# Altium schematic symbol library SEMATIK_LIB.SchLib: 632 symbols (part 5 of 21)
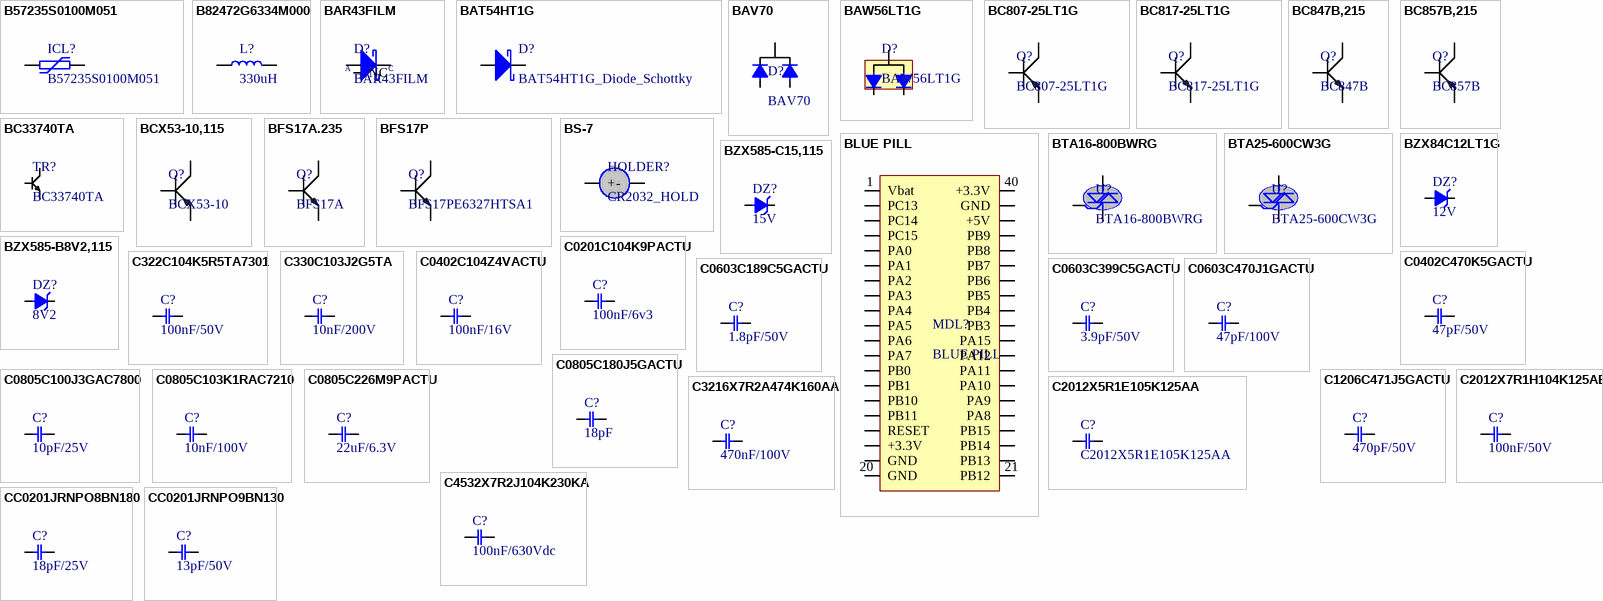
[diagram p20: symbols B57235S0100M051 to CC0201JRNPO9BN130]

## BAR43FILM
designator D?
DIODE SCHOTTKY 30V 100MA SOT23-3; Manufacturer: STMicroelectronics; Polarity: Standard; Capacitance: 7pF; Reverse Recovery Time: 5ns; Max Forward Surge Current (Ifsm): 750mA; Power Dissipation: 250mW; Element Configuration: Single; Forward Voltage: 1V; Max Reverse Current: 500nA; Supplier 1: Digi-Key; Manufacturer Part Number: BAR43FILM; RoHS: Yes; Category: Rectifier Diodes; Stock 1: 4057; Pricing 1: 1=0,33000, 10=0,21600, 100=0,10780, 500=0,08008, 1000=0,05852 (USD); Mount: Surface Mount; Case/Package: SOT-23; Number of Pins: 3; Contact Plating: Tin,Matte; Weight: 0.01lb; Min Operating Temperature: -65°C; Max Operating Temperature: 150°C; Voltage Rating (DC): 30V; Output Current: 100mA; Current Rating: 100mA; Average Rectified Current: 100mA; Max Repetitive Reverse Voltage (Vrrm): 30V; Peak Non-Repetitive Surge Current: 750mA; Termination: SMD/SMT; Max Reverse Voltage (DC): 30V; Package Quantity: 1; Packaging: Tape and Reel; Forward Current: 100mA; Length: 2.9mm; Width: 3.05mm; Height: 0.95mm; Radiation Hardening: No; Lead Free: Lead Free; REACH SVHC: No SVHC; ComponentLink1URL: https://datasheet.ciiva.com/34301/924334-34301779.pdf?src-supplier=Jameco; ComponentLink1Description: https://datasheet.ciiva.com/34301/924334-34301779.pdf?src-supplier=Jameco; ComponentLink2URL: https://datasheet.ciiva.com/915/cd00000764-915504.pdf?src-supplier=Digi-Key; ComponentLink2Description: https://datasheet.ciiva.com/915/cd00000764-915504.pdf?src-supplier=Digi-Key; ComponentLink3URL: https://datasheet.ciiva.com/915/cd00000764-915505.pdf?src-supplier=Digi-Key; ComponentLink3Description: https://datasheet.ciiva.com/915/cd00000764-915505.pdf?src-supplier=Digi-Key; ComponentLink4URL: https://datasheet.ciiva.com/1199/1700360-1199956.pdf?src-supplier=Farnell; ComponentLink4Description: https://datasheet.ciiva.com/1199/1700360-1199956.pdf?src-supplier=Farnell; ComponentLink5URL: https://datasheet.ciiva.com/1199/1700360-1199957.pdf?src-supplier=Farnell; ComponentLink5Description: https://datasheet.ciiva.com/1199/1700360-1199957.pdf?src-supplier=Farnell; ComponentLink6URL: https://datasheet.ciiva.com/15144/getdatasheetpartid-65776-15144378.pdf?src-supplier=Verical; ComponentLink6Description: https://datasheet.ciiva.com/15144/getdatasheetpartid-65776-15144378.pdf?src-supplier=Verical; ComponentLink7URL: https://datasheet.ciiva.com/16360/cd00000764-16360042.pdf?src-supplier=Future+Electronics; ComponentLink7Description: https://datasheet.ciiva.com/16360/cd00000764-16360042.pdf?src-supplier=Future+Electronics; ComponentLink8URL: https://datasheet.ciiva.com/1177/1837092-1177595.pdf?src-supplier=Element14; ComponentLink8Description: https://datasheet.ciiva.com/1177/1837092-1177595.pdf?src-supplier=Element14; ComponentLink9URL: https://datasheet.ciiva.com/14560/70013844-14560827.pdf?src-supplier=Allied+Electronics; ComponentLink9Description: https://datasheet.ciiva.com/14560/70013844-14560827.pdf?src-supplier=Allied+Electronics; ComponentLink10URL: https://datasheet.ciiva.com/1177/1837092-1177596.pdf?src-supplier=Element14; ComponentLink10Description: https://datasheet.ciiva.com/1177/1837092-1177596.pdf?src-supplier=Element14; ComponentLink11URL: https://datasheet.ciiva.com/1177/1700360-1177597.pdf?src-supplier=Element14; ComponentLink11Description: https://datasheet.ciiva.com/1177/1700360-1177597.pdf?src-supplier=Element14; ComponentLink12URL: https://datasheet.ciiva.com/915/cd00000764-915503.pdf?src-supplier=Digi-Key; ComponentLink12Description: https://datasheet.ciiva.com/915/cd00000764-915503.pdf?src-supplier=Digi-Key; Supplier Part Number 1: 497-2521-1-ND
footprint SOT-23
pins: 1 Cathode (power), 2 Anode (power), 3 NC
text: A; C

## BAT54HT1G
designator D?, comment BAT54HT1G_Diode_Schottky
DIODE SCHOTTKY 30V 200MA SOD323; Manufacturer: Fairchild/ON Semiconductor; Voltage - Forward (Vf) (Max) @ If: 800mV @ 100mA; Speed: Small Signal =< 200mA (Io), Any Speed; Current - Reverse Leakage @ Vr: 2µA @ 25V; Capacitance @ Vr, F: 10pF @ 1V, 1MHz; Supplier 1: Digi-Key; Manufacturer Part Number: BAT54HT1G; RoHS: RoHS Compliant; Category: Discrete Semiconductor Products; Stock 1: 11749; Pricing 1: 1=0.3, 10=0.249, 100=0.1319, 500=0.08678, 1000=0.05901 (USD); Packaging: Cut Tape (CT); Part Status: Obsolete; Diode Type: Schottky; Current - Average Rectified (Io): 200mA; Mounting Type: Surface Mount; Package / Case: SC-76, SOD-323; Supplier Device Package: SOD-323-2; Operating Temperature - Junction: -55°C ~ 150°C; ComponentLink1URL: http://media.digikey.com/pdf/Data%20Sheets/Fairchild%20PDFs/BAT54HT1G_Rev_1.2.pdf; ComponentLink1Description: http://media.digikey.com/pdf/Data%20Sheets/Fairchild%20PDFs/BAT54HT1G_Rev_1.2.pdf; Supplier Part Number 1: BAT54HT1GCT-ND
footprint SOD323_Diyot
pins: 1 Katot, 2 Anot

## BAV70
designator D?
DIODE DUAL SWITCHING COM CATHOD SOT-23; Manufacturer: Rectron; Current Rating: 200mA; Voltage Rating (DC): 70V; Capacitance: 1.5pF; Forward Voltage: 1V; Supplier 1: Arrow Electronics; Manufacturer Part Number: BAV70; RoHS: Yes; Category: Rectifier Diodes; Pricing 1: 3000=0,03000, 30000=0,02990, 300000=0,02920, 1500000=0,02880 (USD); Case/Package: SOT-23; Number of Pins: 3; Packaging: Tape and Reel; REACH SVHC: No SVHC; Lead Free: Lead Free; ComponentLink1URL: https://datasheet.ciiva.com/12329/bav70-26153-12329824.pdf?src-supplier=Mouser; ComponentLink1Description: https://datasheet.ciiva.com/12329/bav70-26153-12329824.pdf?src-supplier=Mouser; Supplier Part Number 1: BAV70
footprint SOT-23
pins: 1 Katot, 2 Anot, 3 Anot

## BAW56LT1G
designator D?
DIODE ARRAY GP 75V 215MA SOT23; Manufacturer: ON Semiconductor; Reverse Recovery Time: 6ns; Forward Current: 200mA; Max Repetitive Reverse Voltage (Vrrm): 70V; Forward Voltage: 1.25V; Element Configuration: Common Anode; Max Surge Current: 4A; Max Reverse Current: 2.5uA; Max Reverse Leakage Current: 2.4uA; Max Forward Surge Current (Ifsm): 500mA; Power Dissipation: 300mW; Max Power Dissipation: 225mW; Supplier 1: Digi-Key; Manufacturer Part Number: BAW56LT1G; Stock 1: 170799; Pricing 1: 1 = 0,10000, 10 = 0,08500, 100 = 0,03260, 500 = 0,02380, 1000 = 0,01598 (USD); RoHS: Yes; Case/Package: SOT-23-3; Number of Pins: 3; Contact Plating: Tin,Matte; Min Operating Temperature: -55°C; Max Operating Temperature: 150°C; Packaging: Tape and Reel; Package Quantity: 3000; Max Reverse Voltage (DC): 70V; Recovery Time: 6ns; Average Rectified Current: 200mA; Peak Non-Repetitive Surge Current: 4A; Current Rating: 200mA; Voltage Rating (DC): 70V; Termination: SMD/SMT; Length: 2.9mm; Width: 1.3mm; Height: 0.94mm; Radiation Hardening: No; Lead Free: Lead Free; REACH SVHC: No SVHC; Halogen Free: Halogen Free; ComponentLink1URL: https://datasheet.ciiva.com/905/baw56lt1-d-905777.pdf?src-supplier=Digi-Key; ComponentLink1Description: https://datasheet.ciiva.com/905/baw56lt1-d-905777.pdf?src-supplier=Digi-Key; ComponentLink2URL: https://datasheet.ciiva.com/22663/1708242-22663674.pdf?src-supplier=Element14; ComponentLink2Description: https://datasheet.ciiva.com/22663/1708242-22663674.pdf?src-supplier=Element14; ComponentLink3URL: https://datasheet.ciiva.com/905/baw56lt1-d-905778.pdf?src-supplier=Digi-Key; ComponentLink3Description: https://datasheet.ciiva.com/905/baw56lt1-d-905778.pdf?src-supplier=Digi-Key; ComponentLink4URL: https://datasheet.ciiva.com/905/baw56lt1-d-905779.pdf?src-supplier=Digi-Key; ComponentLink4Description: https://datasheet.ciiva.com/905/baw56lt1-d-905779.pdf?src-supplier=Digi-Key; ComponentLink5URL: https://datasheet.ciiva.com/8300/baw56lt1-d-8300021.pdf?src-supplier=Avnet; ComponentLink5Description: https://datasheet.ciiva.com/8300/baw56lt1-d-8300021.pdf?src-supplier=Avnet; ComponentLink6URL: https://datasheet.ciiva.com/1180/1708242-1180840.pdf?src-supplier=Element14; ComponentLink6Description: https://datasheet.ciiva.com/1180/1708242-1180840.pdf?src-supplier=Element14; ComponentLink7URL: https://datasheet.ciiva.com/8053/baw56lt1-d-8053688.pdf?src-supplier=Element14; ComponentLink7Description: https://datasheet.ciiva.com/8053/baw56lt1-d-8053688.pdf?src-supplier=Element14; ComponentLink8URL: https://datasheet.ciiva.com/1180/1708242-1180841.pdf?src-supplier=Element14; ComponentLink8Description: https://datasheet.ciiva.com/1180/1708242-1180841.pdf?src-supplier=Element14; ComponentLink9URL: https://datasheet.ciiva.com/1180/baw56lt1-d-1180842.pdf?src-supplier=Element14; ComponentLink9Description: https://datasheet.ciiva.com/1180/baw56lt1-d-1180842.pdf?src-supplier=Element14; ComponentLink10URL: https://datasheet.ciiva.com/8299/baw56lt1-d-8299663.pdf?src-supplier=Avnet; ComponentLink10Description: https://datasheet.ciiva.com/8299/baw56lt1-d-8299663.pdf?src-supplier=Avnet; ComponentLink11URL: https://datasheet.ciiva.com/16201/baw56lt1-d-16201039.pdf?src-supplier=Future+Electronics; ComponentLink11Description: https://datasheet.ciiva.com/16201/baw56lt1-d-16201039.pdf?src-supplier=Future+Electronics; Supplier Part Number 1: BAW56LT1GOSCT-ND
footprint SOT-23
pins: 1 A, 2 K1, 3 K2

## BC807-25LT1G
designator Q?
TRANS PNP 45V 0.5A SOT23; Manufacturer: ON Semiconductor; Vce Saturation (Max) @ Ib, Ic: 700mV @ 50mA, 500mA; Current - Collector Cutoff (Max): 100nA (ICBO); DC Current Gain (hFE) (Min) @ Ic, Vce: 160 @ 100mA, 1V; Frequency - Transition: 100MHz; Supplier 1: Digi-Key; Manufacturer Part Number: BC807-25LT1G; RoHS: RoHS Compliant; Category: Discrete Semiconductor Products; Stock 1: 42551; Pricing 1: 1=0.16, 10=0.15, 100=0.0815, 500=0.05018, 1000=0.03421 (USD); Packaging: Cut Tape (CT); Part Status: Active; Transistor Type: PNP; Operating Temperature: -55°C ~ 150°C (TJ); Mounting Type: Surface Mount; Package / Case: TO-236-3, SC-59, SOT-23-3; Supplier Device Package: SOT-23-3 (TO-236); Base Part Number: BC807; ComponentLink1URL: http://www.onsemi.com/pub/Collateral/BC807-16LT1-D.PDF; ComponentLink1Description: http://www.onsemi.com/pub/Collateral/BC807-16LT1-D.PDF; Supplier Part Number 1: BC807-25LT1GOSCT-ND
footprint SOT-23
pins: 1 Collector, 2 Base, 3 Emiter

## BC817-25LT1G
designator Q?
TRANS NPN 45V 0.5A SOT23; Manufacturer: ON Semiconductor; Vce Saturation (Max) @ Ib, Ic: 700mV @ 50mA, 500mA; Current - Collector Cutoff (Max): 100nA (ICBO); DC Current Gain (hFE) (Min) @ Ic, Vce: 160 @ 100mA, 1V; Frequency - Transition: 100MHz; Supplier 1: Digi-Key; Manufacturer Part Number: BC817-25LT1G; RoHS: RoHS Compliant; Category: Discrete Semiconductor Products; Stock 1: 49597; Pricing 1: 1=0.2, 10=0.185, 100=0.101, 500=0.06214, 1000=0.04237 (USD); Packaging: Cut Tape (CT); Part Status: Active; Transistor Type: NPN; Operating Temperature: -65°C ~ 150°C (TJ); Mounting Type: Surface Mount; Package / Case: TO-236-3, SC-59, SOT-23-3; Supplier Device Package: SOT-23-3 (TO-236); Base Part Number: BC817; ComponentLink1URL: http://www.onsemi.com/pub/Collateral/BC817-16LT1-D.PDF; ComponentLink1Description: http://www.onsemi.com/pub/Collateral/BC817-16LT1-D.PDF; Supplier Part Number 1: BC817-25LT1GOSCT-ND
footprint SOT-23
pins: 1 Collector, 2 Base, 3 Emiter

## BC847B,215
designator Q?, comment BC847B
TRANS NPN 45V 0.1A SOT23; Manufacturer: Nexperia; Manufacturer Part Number: BC847B,215; Supplier 1: Digi-Key; Stock 1: 27778; Pricing 1: 1 = 0,13000, 10 = 0,11600, 25 = 0,11000, 100 = 0,04840, 500 = 0,03802, 1000 = 0,02640 (USD); RoHS: No; ComponentLink1URL: http://www.farnell.com/datasheets/1856333.pdf?src-supplier=Farnell; ComponentLink1Description: http://www.farnell.com/datasheets/1856333.pdf?src-supplier=Farnell; ComponentLink2URL: http://www.farnell.com/datasheets/1856333.pdf?src-supplier=Newark; ComponentLink2Description: http://www.farnell.com/datasheets/1856333.pdf?src-supplier=Newark; ComponentLink3URL: https://assets.nexperia.com/documents/data-sheet/BC847_SER.pdf?src-supplier=Digi-Key; ComponentLink3Description: https://assets.nexperia.com/documents/data-sheet/BC847_SER.pdf?src-supplier=Digi-Key; Supplier Part Number 1: 1727-2921-1-ND
footprint SOT-23
pins: 1 Collector, 2 Base, 3 Emiter

## BC857B,215
designator Q?, comment BC857B
TRANS PNP 45V 0.1A SOT23; Manufacturer: Nexperia; Manufacturer Part Number: BC857B,215; Supplier 1: Digi-Key; RoHS: No; Category: BJTs; Stock 1: 62156; Pricing 1: 1=0,14000, 10=0,12300, 25=0,11760, 100=0,05170, 500=0,04060, 1000=0,02820 (USD); ComponentLink1URL: http://www.farnell.com/datasheets/490737.pdf?src-supplier=Farnell; ComponentLink1Description: http://www.farnell.com/datasheets/490737.pdf?src-supplier=Farnell; ComponentLink2URL: http://www.farnell.com/datasheets/490737.pdf?src-supplier=Newark; ComponentLink2Description: http://www.farnell.com/datasheets/490737.pdf?src-supplier=Newark; ComponentLink3URL: https://assets.nexperia.com/documents/data-sheet/BC856_BC857_BC858.pdf?src-supplier=Digi-Key; ComponentLink3Description: https://assets.nexperia.com/documents/data-sheet/BC856_BC857_BC858.pdf?src-supplier=Digi-Key; Supplier Part Number 1: 1727-2926-1-ND
footprint SOT-23
pins: 1 Collector, 2 Base, 3 Emiter

## BC33740TA
designator TR?
TRANS NPN 45V 0.8A TO-92; Manufacturer 1: ON Semiconductor; Max Collector Current: 800mA; Collector Emitter Voltage (VCEO): 700mV; Max Power Dissipation: 625mW; Transition Frequency: 100MHz; Supplier 1: Digi-Key; Manufacturer Part Number 1: BC33740TA; Description 1: TRANS NPN 45V 0.8A TO-92; Stock 1: 3675; Pricing 1: 1=0.33, 10=0.266, 100=0.1412, 500=0.09288, 1000=0.06316 (USD); Mount: Through Hole; Case/Package: TO-226-3; Packaging: Tape and Reel; Collector Emitter Breakdown Voltage: 45V; Supplier Part Number 1: BC33740TACT-ND
footprint TO92-BentLead
pins: 1 Collector, 2 Base, 3 Emiter

## BCX53-10,115
designator Q?, comment BCX53-10
TRANS PNP 80V 1A SOT-89; Manufacturer: Nexperia; Manufacturer Part Number: BCX53-10,115; Supplier 1: Digi-Key; Stock 1: 2734; Pricing 1: 1 = 0,39000, 10 = 0,29200, 25 = 0,25560, 100 = 0,13870, 500 = 0,11316 (USD); RoHS: No; Supplier Part Number 1: 1727-4911-1-ND
footprint SOT-89
pins: 1 Base, 2 Collector, 3 Emiter

## BFS17A.235
designator Q?, comment BFS17A
RF TRANS NPN 15V 25MA 3GHZ SOT23; Manufacturer: NXP Semiconductors; Manufacturer Part Number: BFS17A.235; Emitter Base Voltage (VEBO): 2.5V; Transition Frequency: 2.8GHz; Collector Base Voltage (VCBO): 25V; Number of Elements: 1; Power Dissipation: 300mW; hFE Min: 25; Element Configuration: Single; Supplier 1: Digi-Key; Stock 1: 0; RoHS: Yes; Mount: Surface Mount; Case/Package: TO-236-3; Number of Pins: 3; Contact Plating: Tin,Matte; Min Operating Temperature: -65°C; Max Operating Temperature: 150°C; Polarity: NPN; Collector Emitter Voltage (VCEO): 15V; Continuous Collector Current: 25mA; Collector Emitter Breakdown Voltage: 15V; Max Collector Current: 25mA; Frequency: 2.8GHz; Packaging: Tape and Reel; Package Quantity: 10000; Max Power Dissipation: 300mW; ComponentLink1URL: https://datasheet.ciiva.com/964/bfs17a-964925.pdf?src-supplier=Digi-Key; ComponentLink1Description: https://datasheet.ciiva.com/964/bfs17a-964925.pdf?src-supplier=Digi-Key; ComponentLink2URL: https://datasheet.ciiva.com/11205/bfs17a-11205309.pdf?src-supplier=Avnet; ComponentLink2Description: https://datasheet.ciiva.com/11205/bfs17a-11205309.pdf?src-supplier=Avnet; ComponentLink3URL: https://datasheet.ciiva.com/17304/bfs17a-17304973.pdf?src-supplier=Avnet+Europe; ComponentLink3Description: https://datasheet.ciiva.com/17304/bfs17a-17304973.pdf?src-supplier=Avnet+Europe; Supplier Part Number 1: BFS17A,235-ND
footprint SOT-23
pins: 1 Collector, 2 Base, 3 Emiter

## BFS17P
designator Q?, comment BFS17PE6327HTSA1
RF TRANS NPN 15V 1.4GHZ SOT23-3; Manufacturer: Infineon; Manufacturer Part Number: BFS17P; Max Power Dissipation: 280mW; Transition Frequency: 2.5GHz; Max Collector Current: 50mA; Collector Base Voltage (VCBO): 25V; Emitter Base Voltage (VEBO): 2.5V; hFE Min: 20; Collector Emitter Saturation Voltage: 400mV; Max Frequency: 2.5MHz; Test Frequency: 800MHz; Supplier 1: Digi-Key; Stock 1: 1004; Pricing 1: 1 = 0,37000, 10 = 0,30100, 25 = 0,25200, 100 = 0,15960, 250 = 0,12320, 500 = 0,10500, 1000 = 0,07140 (USD); RoHS: Yes; Case/Package: SOT; Number of Pins: 3; Min Operating Temperature: -65°C; Max Operating Temperature: 150°C; Collector Emitter Breakdown Voltage: 15V; Collector Emitter Voltage (VCEO): 15V; Polarity: NPN; Packaging: Cut Tape; Termination: SMD/SMT; Length: 2.9mm; Width: 1.3mm; Height: 1mm; REACH SVHC: No SVHC; ComponentLink1URL: https://datasheet.ciiva.com/1196/62446-1196382.pdf?src-supplier=Element14; ComponentLink1Description: https://datasheet.ciiva.com/1196/62446-1196382.pdf?src-supplier=Element14; Supplier Part Number 1: BFS17PE6327HTSA1CT-ND
footprint SOT-23
pins: 1 Collector, 2 Base, 3 Emiter

## BLUE PILL
designator MDL?
STM32F103C8T6 Development Board BLUE PILL
footprint BLUE_PILL
pins: 1 Vbat, 2 PC13, 3 PC14, 4 PC15, 5 PA0, 6 PA1, 7 PA2, 8 PA3, 9 PA4, 10 PA5, 11 PA6, 12 PA7, 13 PB0, 14 PB1, 15 PB10, 16 PB11, 17 RESET, 18 +3.3V, 19 GND, 20 GND, 21 PB12, 22 PB13, 23 PB14, 24 PB15, 25 PA8, 26 PA9, 27 PA10, 28 PA11, 29 PA12, 30 PA15, 31 PB3, 32 PB4, 33 PB5, 34 PB6, 35 PB7, 36 PB8, 37 PB9, 38 +5V, 39 GND, 40 +3.3V

## BS-7
designator HOLDER?, comment CR2032_HOLD
BATTERY HOLDER COIN 20MM PC PIN; Manufacturer: Memory Protection Devices; Manufacturer Part Number: BS-7; Number of Cells: 1; Supplier 1: Digi-Key; Stock 1: 32964; Pricing 1: 1 = 0,78000, 10 = 0,66000, 50 = 0,57880, 100 = 0,54570, 250 = 0,50236, 500 = 0,47176, 1000 = 0,44115, 2500 = 0,40290, 5000 = 0,37230 (USD); RoHS: Yes; Mount: Through Hole,PCB; Min Operating Temperature: -55°C; Max Operating Temperature: 105°C; Package Quantity: 100; Termination: PC Pin; Diameter: 20mm; Lead Free: Lead Free; ComponentLink1URL: https://datasheet.ciiva.com/3/bs-7-datasheet-3824.pdf?src-supplier=Digi-Key; ComponentLink1Description: https://datasheet.ciiva.com/3/bs-7-datasheet-3824.pdf?src-supplier=Digi-Key; Supplier Part Number 1: BS-7-ND
footprint BATTERYHOLDER_2032
pins: 1 +, 2 -

## BTA16-800BWRG
designator U?
TRIAC ALTERNISTOR 800V TO220AB; Manufacturer 1: STMicroelectronics; RMS Current (Irms): 16A; Element Configuration: Single; Hold Current: 50mA; Isolation Voltage: 2.5kV; Supplier 1: Digi-Key; Manufacturer Part Number 1: BTA16-800BWRG; Description 1: TRIAC ALTERNISTOR 800V TO220AB; Stock 1: 7247; Pricing 1: 1=1.94, 50=1.64, 100=1.3973, 500=1.148, 1000=0.9512, 2500=0.8856, 5000=0.8528 (USD); Mount: Through Hole; Case/Package: TO-220AB; Number of Pins: 3; Weight: 0.211644oz; Contact Plating: Tin,Matte; Min Operating Temperature: -40°C; Max Operating Temperature: 125°C; Packaging: Rail/Tube; Package Quantity: 50; Max Repetitive Reverse Voltage (Vrrm): 800V; Current Rating: 16A; Voltage Rating (DC): 800V; Length: 10.4mm; Height: 9.3mm; Width: 4.6mm; Radiation Hardening: No; REACH SVHC: No SVHC; Lead Free: Lead Free; ComponentLink1URL: http://www.farnell.com/datasheets/1699992.pdf?src-supplier=Element14; ComponentLink1Description: http://www.farnell.com/datasheets/1699992.pdf?src-supplier=Element14; ComponentLink2URL: http://www.st.com/web/en/resource/technical/document/datasheet/CD00002265.pdf?src-supplier=Avnet; ComponentLink2Description: http://www.st.com/web/en/resource/technical/document/datasheet/CD00002265.pdf?src-supplier=Avnet; ComponentLink3URL: http://www.mouser.com/ds/2/389/bta16-954517.pdf?src-supplier=Mouser; ComponentLink3Description: http://www.mouser.com/ds/2/389/bta16-954517.pdf?src-supplier=Mouser; ComponentLink4URL: http://www.st.com/web/en/resource/technical/document/datasheet/CD00002265.pdf?src-supplier=Future+Electronics; ComponentLink4Description: http://www.st.com/web/en/resource/technical/document/datasheet/CD00002265.pdf?src-supplier=Future+Electronics; Supplier Part Number 1: 497-6668-5-ND
footprint TO-220AB
pins: 1 A1, 2 A2, 3 GATE

## BTA25-600CW3G
designator U?
TRIAC 600V 25A TO220AB; Manufacturer 1: Littelfuse; Hold Current: 50mA; Element Configuration: Single; Supplier 1: Digi-Key; Manufacturer Part Number 1: BTA25-600CW3G; Description 1: TRIAC 600V 25A TO220AB; Stock 1: 1337; Pricing 1: 1=3.42, 10=3.056, 25=2.75, 100=2.5057, 250=2.26124, 500=2.02902, 1000=1.71122, 2500=1.62566, 5000=1.56454 (USD); Mount: Through Hole; Case/Package: TO-220-3; Min Operating Temperature: -40°C; Max Operating Temperature: 125°C; Packaging: Rail/Tube; RMS Current (Irms): 25A; Supplier Part Number 1: BTA25-600CW3GOS-ND
footprint TO-220AB
pins: 1 A1, 2 A2, 3 GATE

## BZX84C12LT1G
designator DZ?, comment 12V
DIODE ZENER 12V 250W SOT23-3; Manufacturer: ON Semiconductor; Manufacturer Part Number: BZX84C12LT1G; Max Power Dissipation: 225mW; Forward Voltage: 900mV; Tolerance: 5%; Max Reverse Leakage Current: 100nA; Impedance: 25R; Power Dissipation: 300mW; Test Current: 5mA; Element Configuration: Single; Zener Current: 10mA; Breakdown Voltage: 12.7V; ESD Protection: Yes; Supplier 1: Digi-Key; Stock 1: 39639; Pricing 1: 1 = 0,13000, 10 = 0,11800, 100 = 0,04950, 500 = 0,03888, 1000 = 0,02700 (USD); RoHS: Yes; Case/Package: SOT-23-3; Number of Pins: 3; Material: Plastic; Contact Plating: Tin,Matte; Min Operating Temperature: -65°C; Max Operating Temperature: 150°C; Package Quantity: 3000; Packaging: Tape and Reel; Zener Voltage: 12V; Voltage Tolerance: 5%; Working Voltage: 12V; Max Reverse Current: 100nA; Voltage Rating (DC): 12V; Power Rating: 225mW; Length: 2.9mm; Width: 1.3mm; Height: 0.94mm; Radiation Hardening: No; Lead Free: Lead Free; Halogen Free: Halogen Free; REACH SVHC: No SVHC; ComponentLink1URL: https://datasheet.ciiva.com/15141/getdatasheetpartid-38645-15141985.pdf?src-supplier=Verical; ComponentLink1Description: https://datasheet.ciiva.com/15141/getdatasheetpartid-38645-15141985.pdf?src-supplier=Verical; ComponentLink2URL: https://datasheet.ciiva.com/39121/2010827-39121645.pdf?src-supplier=Jameco; ComponentLink2Description: https://datasheet.ciiva.com/39121/2010827-39121645.pdf?src-supplier=Jameco; ComponentLink3URL: https://datasheet.ciiva.com/25929/bzx84c2v4lt1-d-25929575.pdf?src-supplier=Avnet+Europe; ComponentLink3Description: https://datasheet.ciiva.com/25929/bzx84c2v4lt1-d-25929575.pdf?src-supplier=Avnet+Europe; ComponentLink4URL: https://datasheet.ciiva.com/8345/bzx84c2v4lt1-d-8345784.pdf?src-supplier=Avnet; ComponentLink4Description: https://datasheet.ciiva.com/8345/bzx84c2v4lt1-d-8345784.pdf?src-supplier=Avnet; ComponentLink5URL: https://datasheet.ciiva.com/8026/bzx84c2v4lt1-d-8026969.pdf?src-supplier=Element14; ComponentLink5Description: https://datasheet.ciiva.com/8026/bzx84c2v4lt1-d-8026969.pdf?src-supplier=Element14; ComponentLink6URL: https://datasheet.ciiva.com/8026/bzx84c2v4lt1-d-8026970.pdf?src-supplier=Element14; ComponentLink6Description: https://datasheet.ciiva.com/8026/bzx84c2v4lt1-d-8026970.pdf?src-supplier=Element14; ComponentLink7URL: https://datasheet.ciiva.com/8345/bzx84c2v4lt1-d-8345788.pdf?src-supplier=Avnet; ComponentLink7Description: https://datasheet.ciiva.com/8345/bzx84c2v4lt1-d-8345788.pdf?src-supplier=Avnet; ComponentLink8URL: https://datasheet.ciiva.com/894/bzx84c2v4lt1-d-894701.pdf?src-supplier=Digi-Key; ComponentLink8Description: https://datasheet.ciiva.com/894/bzx84c2v4lt1-d-894701.pdf?src-supplier=Digi-Key; ComponentLink9URL: https://datasheet.ciiva.com/894/bzx84c2v4lt1-d-894702.pdf?src-supplier=Digi-Key; ComponentLink9Description: https://datasheet.ciiva.com/894/bzx84c2v4lt1-d-894702.pdf?src-supplier=Digi-Key; ComponentLink10URL: https://datasheet.ciiva.com/18434/70100187-18434894.pdf?src-supplier=Allied+Electronics; ComponentLink10Description: https://datasheet.ciiva.com/18434/70100187-18434894.pdf?src-supplier=Allied+Electronics; ComponentLink11URL: https://datasheet.ciiva.com/894/bzx84c2v4lt1-d-894703.pdf?src-supplier=Digi-Key; ComponentLink11Description: https://datasheet.ciiva.com/894/bzx84c2v4lt1-d-894703.pdf?src-supplier=Digi-Key; Supplier Part Number 1: BZX84C12LT1GOSCT-ND
footprint SOT-23
pins: 1 Cathode, 2 Anot

## BZX585-B8V2,115
designator DZ?, comment 8V2
DIODE ZENER SINGLE 8.2V 2% 300mW Automotive 2-Pin SOD-523 T/R; Manufacturer: NXP Semiconductors; Manufacturer Part Number: BZX585-B8V2,115; Forward Voltage: 1.1V; ESD Protection: No; Max Reverse Leakage Current: 700nA; Impedance: 10R; Test Current: 5mA; Supplier 1: Digi-Key; Stock 1: 3625; Pricing 1: 1 = 0,29000, 10 = 0,23700, 100 = 0,09680, 500 = 0,08074, 1000 = 0,05610 (USD); RoHS: Yes; Mount: Surface Mount; Case/Package: SC; Number of Pins: 2; Contact Plating: Tin; Min Operating Temperature: -65°C; Max Operating Temperature: 150°C; Element Configuration: Single; Package Quantity: 3000; Packaging: Tape and Reel; Max Power Dissipation: 300mW; Tolerance: 2%; Power Dissipation: 300mW; Zener Voltage: 8.2V; Voltage Tolerance: 2%; Max Reverse Current: 700nA; Working Voltage: 8.2V; Radiation Hardening: No; Lead Free: Lead Free; ComponentLink1URL: https://datasheet.ciiva.com/896/bzx585-series-896532.pdf?src-supplier=Digi-Key; ComponentLink1Description: https://datasheet.ciiva.com/896/bzx585-series-896532.pdf?src-supplier=Digi-Key; ComponentLink2URL: https://datasheet.ciiva.com/8346/bzx585-series-8346871.pdf?src-supplier=Avnet; ComponentLink2Description: https://datasheet.ciiva.com/8346/bzx585-series-8346871.pdf?src-supplier=Avnet; ComponentLink3URL: https://datasheet.ciiva.com/10644/bzx585-series-10644999.pdf?src-supplier=Avnet; ComponentLink3Description: https://datasheet.ciiva.com/10644/bzx585-series-10644999.pdf?src-supplier=Avnet; Supplier Part Number 1: 1727-2649-1-ND
footprint SOD523F
pins: 1 Cathode, 2 Anode

## BZX585-C15,115
designator DZ?, comment 15V
DIODE ZENER SINGLE 15V 5% 300mW 2-Pin SOD-523 T/R; Manufacturer: Nexperia; Manufacturer Part Number: BZX585-C15,115; Supplier 1: Digi-Key; Stock 1: 8436; Pricing 1: 1 = 0,26000, 10 = 0,21000, 100 = 0,08580, 500 = 0,07156, 1000 = 0,04973 (USD); RoHS: No; ComponentLink1URL: http://www.farnell.com/datasheets/2174102.pdf?src-supplier=Farnell; ComponentLink1Description: http://www.farnell.com/datasheets/2174102.pdf?src-supplier=Farnell; Supplier Part Number 1: 1727-6235-1-ND
footprint SOD523F
pins: 1 Cathode, 2 Anode

## C0201C104K9PACTU
designator C?, comment 100nF/6v3
CAP CER nF 100 6.3V X5R 0201; Manufacturer: KEMET; Manufacturer Part Number: C0201C104K9PACTU; Dielectric Material: Ceramic; Capacitance: 100nF; Dissipation Factor: 5%; Tolerance: 10%; Supplier 1: Digi-Key; Stock 1: 693438; Pricing 1: 1 = 0,11000, 10 = 0,07800, 100 = 0,03470, 500 = 0,02480, 1000 = 0,01948, 2500 = 0,01771, 5000 = 0,01629 (USD); RoHS: Yes; Mount: Surface Mount,PCB; Case/Package: 0201; Case Code (Metric): 0603; Case Code (Imperial): 0201; Min Operating Temperature: -55°C; Max Operating Temperature: 85°C; Dielectric: X5R; Termination: SMD/SMT; Voltage: 6.3V; Voltage Rating: 6.3V; Packaging: Tape and Reel; Package Quantity: 1; Voltage Rating (DC): 6.3V; Length: 0.6mm; Height: 0.3mm; Thickness: 0.013inch; Depth: 0.3mm; Width: 0.012inch; Radiation Hardening: No; REACH SVHC: No SVHC; ComponentLink1URL: https://datasheet.ciiva.com/7657/1698774-7657445.pdf?src-supplier=Element14; ComponentLink1Description: https://datasheet.ciiva.com/7657/1698774-7657445.pdf?src-supplier=Element14; ComponentLink2URL: https://datasheet.ciiva.com/28645/1789732-28645354.pdf?src-supplier=Element14; ComponentLink2Description: https://datasheet.ciiva.com/28645/1789732-28645354.pdf?src-supplier=Element14; Supplier Part Number 1: 399-7743-6-ND
footprint cap_0201
pins: 1, 2

## C322C104K5R5TA7301
designator C?, comment 100nF/50V
CAP CER nF 100 50V X7R RADIAL; Manufacturer 1: KEMET; Manufacturer Part Number 1: C322C104K5R5TA7301; Description 1: Multilayer Ceramic Capacitors MLCC - Leaded 50volts 0.1uF 10% X7R; Capacitance: 100nF; Tolerance: 10%; Dissipation Factor: 2.5%; Lead/Base Style: Formed Leads; Lead Diameter: 0.51mm; Pitch: 5.08mm; Supplier 1: Digi-Key; Stock 1: 166396; Pricing 1: 1=0.25, 10=0.173, 100=0.0978, 500=0.069, 1000=0.06038 (USD); Mount: Through Hole; Case/Package: Radial; Min Operating Temperature: -55°C; Max Operating Temperature: 125°C; Packaging: Tape and Reel; Voltage Rating: 50V; Voltage Rating (DC): 50V; Package Quantity: 2500; Dielectric: X7R; Termination: Radial; Length: 5.08mm; Height: 3.18mm; Lead Pitch: 5.08mm; Width: 0.125inch; Height - Seated (Max): 0.26inch; Depth: 3.18mm; Radiation Hardening: No; REACH SVHC: No SVHC; Lead Free: Lead Free; ComponentLink1URL: http://www.kemet.com/Lists/ProductCatalog/Attachments/598/KEM_C1050_GOLDMAX_X7R.pdf?src-supplier=Digi-Key; ComponentLink1Description: http://www.kemet.com/Lists/ProductCatalog/Attachments/598/KEM_C1050_GOLDMAX_X7R.pdf?src-supplier=Digi-Key; ComponentLink2URL: http://capacitoredge.kemet.com/capedge2/DataSheet?pn=C322C104K5R5TA7301&src-supplier=Avnet+Europe; ComponentLink2Description: http://capacitoredge.kemet.com/capedge2/DataSheet?pn=C322C104K5R5TA7301&src-supplier=Avnet+Europe; ComponentLink3URL: https://www.distrelec.biz/Web/Downloads/_t/ds/c052_62_mlcc-series_eng_tds.pdf?mime=application%2Fpdf&src-supplier=Distrelec; ComponentLink3Description: https://www.distrelec.biz/Web/Downloads/_t/ds/c052_62_mlcc-series_eng_tds.pdf?mime=application%2Fpdf&src-supplier=Distrelec; Supplier Part Number 1: 399-9877-1-ND
footprint cap20
footprint CAP20+CAP0805
pins: 1, 2

## C330C103J2G5TA
designator C?, comment 10nF/200V
CAP CER nF 10 200V NP0 RADIAL; Manufacturer 1: KEMET; Manufacturer Part Number 1: C330C103J2G5TA; Description 1: CAP CER 10000PF 200V NP0 RADIAL; Dielectric Material: Ceramic; Capacitance: 10nF; Tolerance: 5%; Dielectric: C0G; Dissipation Factor: 0.1%; Temperature Coefficient: 30ppm/°C; Lead/Base Style: Straight; Lead Diameter: 0.51mm; Lead Length: 7mm; Supplier 1: Digi-Key; Stock 1: 15752; Pricing 1: 1=1.01, 10=0.797, 100=0.5978, 500=0.4517, 1000=0.39855, 2500=0.37198, 5000=0.3587 (USD); Mount: Through Hole,PCB; Case/Package: Radial; Number of Pins: 330; Min Operating Temperature: -55°C; Max Operating Temperature: 125°C; Package Quantity: 250; Voltage Rating: 200V; Packaging: Bulk; Voltage Rating (DC): 200V; Termination: Radial; Composition: Ceramic; Voltage: 200V; Length: 7.62mm; Height: 3.81mm; Width: 0.15inch; Lead Pitch: 5.08mm; Height - Seated (Max): 0.36inch; Depth: 3.81mm; Radiation Hardening: No; REACH SVHC: No SVHC; Lead Free: Lead Free; ComponentLink1URL: http://www.farnell.com/datasheets/706880.pdf?src-supplier=Element14; ComponentLink1Description: http://www.farnell.com/datasheets/706880.pdf?src-supplier=Element14; ComponentLink2URL: http://www.mouser.com/ds/2/212/KEMET_C1049_GOLDMAX_C0G-1021870-1053270.pdf?src-supplier=Mouser; ComponentLink2Description: http://www.mouser.com/ds/2/212/KEMET_C1049_GOLDMAX_C0G-1021870-1053270.pdf?src-supplier=Mouser; Supplier Part Number 1: 399-4385-ND
footprint CAP20+CAP0805
pins: 1, 2

## C0402C104Z4VACTU
designator C?, comment 100nF/16V
CAP CER nF 100 16VDC Y5V 0402; Manufacturer: KEMET; Manufacturer Part Number: C0402C104Z4VACTU; Dielectric Material: Ceramic; Tolerance: 80%; Capacitance: 100nF; Voltage Rating (DC): 16V; Supplier 1: Digi-Key; Stock 1: 1566377; Pricing 1: 1 = 0,10000, 10 = 0,01800, 100 = 0,00810, 500 = 0,00578, 1000 = 0,00454, 2500 = 0,00412, 5000 = 0,00380 (USD); RoHS: Yes; Mount: Surface Mount; Case/Package: 0402; Min Operating Temperature: -30°C; Max Operating Temperature: 85°C; Packaging: Tape and Reel; Dielectric: Y5V; Length: 1mm; Height: 0.5mm; Depth: 0.5mm; Radiation Hardening: No; Lead Free: Lead Free; ComponentLink1URL: https://datasheet.ciiva.com/26923/getdatasheetpartid-764272-26923874.pdf?src-supplier=Verical; ComponentLink1Description: https://datasheet.ciiva.com/26923/getdatasheetpartid-764272-26923874.pdf?src-supplier=Verical; Supplier Part Number 1: 399-1043-6-ND
footprint cap_0402
pins: 1, 2

## C0402C470K5GACTU
designator C?, comment 47pF/50V
CAP CER pF 47 50V C0G/NP0 0402; Manufacturer: KEMET; Manufacturer Part Number: C0402C470K5GACTU; Dielectric Material: Ceramic; Capacitance: 47pF; Tolerance: 10%; Dielectric: C0G; Supplier 1: Digi-Key; Stock 1: 487950; Pricing 1: 1 = 0,10000, 10 = 0,01900, 50 = 0,01060, 100 = 0,00860, 500 = 0,00616, 1000 = 0,00484, 2500 = 0,00440, 5000 = 0,00405 (USD); RoHS: Yes; Mount: Surface Mount; Case/Package: 0402; Case Code (Imperial): 0402; Case Code (Metric): 1005; Min Operating Temperature: -55°C; Max Operating Temperature: 125°C; Package Quantity: 1; Packaging: Tape and Reel; Voltage Rating: 50V; Voltage Rating (DC): 50V; Termination: SMD/SMT; Length: 1mm; Width: 0.02inch; Lead Pitch: 0.3mm; Thickness: 0.022inch; Depth: 0.5mm; Radiation Hardening: No; REACH SVHC: No SVHC; Lead Free: Lead Free; ComponentLink1URL: https://datasheet.ciiva.com/18192/getdatasheetpartid-552172-18192522.pdf?src-supplier=Verical; ComponentLink1Description: https://datasheet.ciiva.com/18192/getdatasheetpartid-552172-18192522.pdf?src-supplier=Verical; Supplier Part Number 1: 399-7796-1-ND
footprint cap_0402
pins: 1, 2

## C0603C189C5GACTU
designator C?, comment 1.8pF/50V
CAP CER pf 1.8 50V C0G/NP0 0603; Manufacturer: KEMET; Manufacturer Part Number: C0603C189C5GACTU; Dielectric Material: Ceramic; Capacitance: 1.8pF; Dielectric: C0G; Supplier 1: Digi-Key; Stock 1: 2820; Pricing 1: 1 = 0,37000, 10 = 0,25500, 50 = 0,17820, 100 = 0,15280, 500 = 0,11460, 1000 = 0,09677 (USD); RoHS: Yes; Mount: Surface Mount; Case/Package: 0603; Case Code (Metric): 1608; Case Code (Imperial): 0603; Min Operating Temperature: -55°C; Max Operating Temperature: 125°C; Package Quantity: 1; Voltage Rating: 50V; Packaging: Tape and Reel; Voltage Rating (DC): 50V; Termination: SMD/SMT; Series: C; Construction: Flat; Length: 1.6mm; Width: 0.031inch; Height: 0.8mm; Thickness: 0.034inch; Lead Pitch: 0.7mm; Depth: 0.8mm; Radiation Hardening: No; Lead Free: Lead Free; RoHS Compliant: Yes; ComponentLink1URL: https://datasheet.ciiva.com/5412/kem-c1003-c0g-smd-5412982.pdf?src-supplier=Mouser; ComponentLink1Description: https://datasheet.ciiva.com/5412/kem-c1003-c0g-smd-5412982.pdf?src-supplier=Mouser; Supplier Part Number 1: 399-7870-1-ND
footprint cap_0603
pins: 1, 2

## C0603C399C5GACTU
designator C?, comment 3.9pF/50V
CAP CER pF 3.9 50V C0G/NP0 0603; Manufacturer: KEMET; Manufacturer Part Number: C0603C399C5GACTU; Dielectric Material: Ceramic; Capacitance: 3.9pF; Dielectric: C0G; Temperature Coefficient: 30ppm/°C; Supplier 1: Digi-Key; Stock 1: 7948; Pricing 1: 1 = 0,37000, 10 = 0,25500, 50 = 0,17820, 100 = 0,15280, 500 = 0,11460, 1000 = 0,09677 (USD); RoHS: Yes; Mount: Surface Mount; Case/Package: 0603; Case Code (Metric): 1608; Case Code (Imperial): 0603; Min Operating Temperature: -55°C; Max Operating Temperature: 125°C; Package Quantity: 4000; Voltage Rating: 50V; Packaging: Tape and Reel; Voltage Rating (DC): 50V; Termination: SMD/SMT; Voltage: 50V; Length: 1.6mm; Width: 0.031inch; Height: 0.8mm; Thickness: 0.034inch; Lead Pitch: 0.7mm; Depth: 0.8mm; Radiation Hardening: No; REACH SVHC: No SVHC; Lead Free: Lead Free; ComponentLink1URL: https://datasheet.ciiva.com/26847/getdatasheetpartid-385548-26847676.pdf?src-supplier=Verical; ComponentLink1Description: https://datasheet.ciiva.com/26847/getdatasheetpartid-385548-26847676.pdf?src-supplier=Verical; Supplier Part Number 1: 399-7915-6-ND
footprint cap_0603
pins: 1, 2

## C0603C470J1GACTU
designator C?, comment 47pF/100V
CAP CER pF 47 100V C0G/NP0 0603; Manufacturer: KEMET; Manufacturer Part Number: C0603C470J1GACTU; Dielectric Material: Ceramic; Capacitance: 47pF; Tolerance: 5%; Dielectric: C0G; Temperature Coefficient: 30ppm/°C; Dissipation Factor: 0.1%; Supplier 1: Digi-Key; Stock 1: 251923; Pricing 1: 1 = 0,10000, 10 = 0,05200, 50 = 0,02840, 100 = 0,02320, 500 = 0,01656, 1000 = 0,01301 (USD); RoHS: Yes; Mount: Surface Mount,PCB; Case/Package: 0603; Number of Pins: 2; Case Code (Imperial): 0603; Case Code (Metric): 1608; Min Operating Temperature: -55°C; Max Operating Temperature: 125°C; Package Quantity: 4000; Voltage Rating: 100V; Voltage Rating (DC): 100V; Packaging: Tape and Reel; Termination: SMD/SMT; Voltage: 100V; Length: 1.6mm; Width: 0.8mm; Height: 0.8mm; Lead Pitch: 0.7mm; Thickness: 0.034inch; Depth: 0.8mm; Radiation Hardening: No; REACH SVHC: No SVHC; Lead Free: Lead Free; ComponentLink1URL: https://datasheet.ciiva.com/28668/1789732-28668693.pdf?src-supplier=Element14; ComponentLink1Description: https://datasheet.ciiva.com/28668/1789732-28668693.pdf?src-supplier=Element14; ComponentLink2URL: https://datasheet.ciiva.com/18193/getdatasheetpartid-544691-18193046.pdf?src-supplier=Verical; ComponentLink2Description: https://datasheet.ciiva.com/18193/getdatasheetpartid-544691-18193046.pdf?src-supplier=Verical; ComponentLink3URL: https://datasheet.ciiva.com/18101/getdatasheetpartid-38001-18101098.pdf?src-supplier=Verical; ComponentLink3Description: https://datasheet.ciiva.com/18101/getdatasheetpartid-38001-18101098.pdf?src-supplier=Verical; Supplier Part Number 1: 399-7917-1-ND
footprint cap_0603
pins: 1, 2

## C0805C100J3GAC7800
designator C?, comment 10pF/25V
CAP CER pF 10 25V NP0 0805; Manufacturer: KEMET; Manufacturer Part Number: C0805C100J3GAC7800; Dielectric Material: Ceramic; Capacitance: 10pF; Tolerance: 5%; Dielectric: C0G; Supplier 1: Digi-Key; RoHS: Yes; Category: Ceramic Capacitors; Stock 1: 7973; Pricing 1: 1=0,24000, 10=0,16500, 50=0,11000, 100=0,09350, 500=0,06600, 1000=0,05775 (USD); Mount: Surface Mount; Case/Package: 0805; Case Code (Imperial): 0805; Case Code (Metric): 2012; Min Operating Temperature: -55°C; Max Operating Temperature: 125°C; Packaging: Tape and Reel; Voltage Rating (DC): 25V; Series: SMD Comm C0G; Voltage Rating: 25V; Construction: Flat; Length: 2mm; Height: 0.78mm; Depth: 1.25mm; Radiation Hardening: No; Lead Free: Lead Free; ComponentLink1URL: http://components.arrow.com/part/dataview/0323_00326663?src-supplier=Arrow+Europe; ComponentLink1Description: http://components.arrow.com/part/dataview/0323_00326663?src-supplier=Arrow+Europe; ComponentLink2URL: https://api.kemet.com/component-edge/download/datasheet/C0805C100J3GACTU.pdf?src-supplier=Digi-Key; ComponentLink2Description: https://api.kemet.com/component-edge/download/datasheet/C0805C100J3GACTU.pdf?src-supplier=Digi-Key; ComponentLink3URL: https://search.kemet.com/component-edge/download/datasheet/C0805C100J3GACTU.pdf?src-supplier=Digi-Key; ComponentLink3Description: https://search.kemet.com/component-edge/download/datasheet/C0805C100J3GACTU.pdf?src-supplier=Digi-Key; ComponentLink4URL: http://capacitoredge.kemet.com/capedge2/DataSheet?pn=C0805C100J3GACTU&src-supplier=Avnet; ComponentLink4Description: http://capacitoredge.kemet.com/capedge2/DataSheet?pn=C0805C100J3GACTU&src-supplier=Avnet; ComponentLink5URL: http://capacitoredge.kemet.com/capedge2/DataSheet?pn=C0805C100J3GACTU&src-supplier=Avnet+Europe; ComponentLink5Description: http://capacitoredge.kemet.com/capedge2/DataSheet?pn=C0805C100J3GACTU&src-supplier=Avnet+Europe; Supplier Part Number 1: 399-14542-1-ND
footprint Cap_0805
pins: 1, 2

## C0805C103K1RAC7210
designator C?, comment 10nF/100V
CAP CER nF 10 100V X7R 10% SMD 0805 125C T/R; Manufacturer 1: KEMET; Manufacturer Part Number 1: C0805C103K1RAC7210; Description 1: Cap Ceramic 0.01uF 100V X7R 10% SMD 0805 125C T/R; Dielectric Material: Ceramic; Capacitance: 10nF; Supplier 1: Digi-Key; Stock 1: 40245; Pricing 1: 1=0.1, 10=0.068, 100=0.0304, 500=0.02172, 1000=0.01706, 2500=0.01551, 5000=0.01427 (USD); Mount: Surface Mount; Case/Package: 0805; Case Code (Imperial): 0805; Case Code (Metric): 2012; Min Operating Temperature: -55°C; Max Operating Temperature: 125°C; Tolerance: 10%; Packaging: Tape and Reel; Package Quantity: 10000; Voltage Rating: 100V; Voltage Rating (DC): 100V; Dielectric: X7R; Termination: SMD/SMT; Length: 2mm; Height: 0.78mm; Depth: 1.25mm; Radiation Hardening: No; ComponentLink1URL: http://components.arrow.com/part/dataview/0323_00324583?src-supplier=Arrow+Europe; ComponentLink1Description: http://components.arrow.com/part/dataview/0323_00324583?src-supplier=Arrow+Europe; ComponentLink2URL: http://www.farnell.com/datasheets/2747800.pdf?src-supplier=Farnell; ComponentLink2Description: http://www.farnell.com/datasheets/2747800.pdf?src-supplier=Farnell; ComponentLink3URL: http://www.farnell.com/datasheets/2747800.pdf?src-supplier=Newark; ComponentLink3Description: http://www.farnell.com/datasheets/2747800.pdf?src-supplier=Newark; ComponentLink4URL: http://www.kemet.com/kemet/web/homepage/kechome.nsf/weben/C4DA2DA1D1C9D3C3CA2570A50016092D/$file/KEM_C1002_X7R_SMD.pdf?src-supplier=Avnet+Europe; ComponentLink4Description: http://www.kemet.com/kemet/web/homepage/kechome.nsf/weben/C4DA2DA1D1C9D3C3CA2570A50016092D/$file/KEM_C1002_X7R_SMD.pdf?src-supplier=Avnet+Europe; ComponentLink5URL: http://www.kemet.com/kemet/web/homepage/kechome.nsf/weben/C4DA2DA1D1C9D3C3CA2570A50016092D/$file/KEM_C1002_X7R_SMD.pdf?src-supplier=Avnet; ComponentLink5Description: http://www.kemet.com/kemet/web/homepage/kechome.nsf/weben/C4DA2DA1D1C9D3C3CA2570A50016092D/$file/KEM_C1002_X7R_SMD.pdf?src-supplier=Avnet; ComponentLink6URL: https://api.kemet.com/component-edge/download/datasheet/C0805C103K1RAC7210.pdf?src-supplier=Digi-Key; ComponentLink6Description: https://api.kemet.com/component-edge/download/datasheet/C0805C103K1RAC7210.pdf?src-supplier=Digi-Key; ComponentLink7URL: http://www.mouser.com/ds/2/212/KEM_C1002_X7R_SMD-1102033.pdf?src-supplier=Mouser; ComponentLink7Description: http://www.mouser.com/ds/2/212/KEM_C1002_X7R_SMD-1102033.pdf?src-supplier=Mouser; ComponentLink8URL: http://components.arrow.com/part/dataview/2091052S6675795N7429?src-supplier=Arrow; ComponentLink8Description: http://components.arrow.com/part/dataview/2091052S6675795N7429?src-supplier=Arrow; ComponentLink9URL: https://www.verical.com/server-webapp/html/getDatasheet?partID=131027&src-supplier=Verical; ComponentLink9Description: https://www.verical.com/server-webapp/html/getDatasheet?partID=131027&src-supplier=Verical; Supplier Part Number 1: 399-17617-1-ND
footprint Cap_0805
pins: 1, 2

## C0805C180J5GACTU
designator C?, comment 18pF
CAP CER pF 18 50V C0G/NP0 0805; Manufacturer: KEMET; Manufacturer Part Number: C0805C180J5GACTU; Tolerance: ±5%; Temperature Coefficient: C0G, NP0; Supplier 1: Digi-Key; RoHS: RoHS Compliant; Category: Capacitors; Stock 1: 157602; Pricing 1: 1=0.11, 10=0.08, 100=0.0374, 500=0.02624, 1000=0.02172 (USD); Packaging: Cut Tape (CT); Part Status: Active; Voltage - Rated: 50V; Operating Temperature: -55°C ~ 125°C; Features: Low ESL; Ratings: -; Applications: General Purpose; Failure Rate: -; Mounting Type: Surface Mount, MLCC; Package / Case: 0805 (2012 Metric); Size / Dimension: 0.079" L x 0.049" W (2.00mm x 1.25mm); Height - Seated (Max): -; Thickness (Max): 0.035" (0.88mm); Lead Spacing: -; Lead Style: -; ComponentLink1URL: https://search.kemet.com/component-edge/download/datasheet/C0805C180J5GACTU.pdf; ComponentLink1Description: https://search.kemet.com/component-edge/download/datasheet/C0805C180J5GACTU.pdf; Supplier Part Number 1: 399-1112-1-ND
footprint Cap_0805
pins: 1, 2

## C0805C226M9PACTU
designator C?, comment 22uF/6.3V
CAP CER uF 22 6.3V X5R 0805; Manufacturer: KEMET; Manufacturer Part Number: C0805C226M9PACTU; Dielectric Material: Ceramic; Capacitance: 22uF; Tolerance: 20%; Dissipation Factor: 5%; Supplier 1: Digi-Key; Stock 1: 121128; Pricing 1: 1 = 0,23000, 10 = 0,15900, 50 = 0,09520, 100 = 0,08050, 500 = 0,05506, 1000 = 0,04870 (USD); RoHS: Yes; Mount: Surface Mount; Case/Package: 0805; Case Code (Imperial): 0805; Case Code (Metric): 2012; Min Operating Temperature: -55°C; Max Operating Temperature: 85°C; Package Quantity: 2500; Voltage Rating: 6.3V; Voltage Rating (DC): 6.3V; Packaging: Tape and Reel; Dielectric: X5R; Termination: SMD/SMT; Voltage: 6.3V; Length: 2mm; Height: 1.25mm; Width: 1.2mm; Depth: 1.25mm; Radiation Hardening: No; Lead Free: Lead Free; ComponentLink1URL: https://datasheet.ciiva.com/18193/getdatasheetpartid-344134-18193702.pdf?src-supplier=Verical; ComponentLink1Description: https://datasheet.ciiva.com/18193/getdatasheetpartid-344134-18193702.pdf?src-supplier=Verical; ComponentLink2URL: https://datasheet.ciiva.com/7842/40889-7842585.pdf?src-supplier=Element14; ComponentLink2Description: https://datasheet.ciiva.com/7842/40889-7842585.pdf?src-supplier=Element14; Supplier Part Number 1: 399-4696-1-ND
footprint Cap_0805
pins: 1, 2

## C1206C471J5GACTU
designator C?, comment 470pF/50V
CAP CER pF 470 50V C0G/NP0 1206; Manufacturer: KEMET; Manufacturer Part Number: C1206C471J5GACTU; Dielectric Material: Ceramic; Tolerance: 5%; Capacitance: 470pF; Dielectric: C0G; Dissipation Factor: 0.1%; Temperature Coefficient: 30ppm/°C; Supplier 1: Digi-Key; Stock 1: 50737; Pricing 1: 1 = 0,24000, 10 = 0,16500, 50 = 0,11000, 100 = 0,09350, 500 = 0,06600, 1000 = 0,05775 (USD); RoHS: Yes; Mount: Surface Mount; Case/Package: 1206; Contact Material: Tin; Case Code (Imperial): 1206; Case Code (Metric): 3216; Min Operating Temperature: -55°C; Max Operating Temperature: 125°C; Termination: SMD/SMT; Packaging: Tape and Reel; Voltage Rating (DC): 50V; Package Quantity: 1; Voltage Rating: 50V; Voltage: 50V; Series: C; Construction: Flat; Length: 3.2mm; Width: 0.063inch; Height: 0.78mm; Depth: 1.6mm; Thickness: 0.035inch; Radiation Hardening: No; Lead Free: Lead Free; REACH SVHC: Unknown; RoHS Compliant: Yes; ComponentLink1URL: https://datasheet.ciiva.com/7729/40889-7729918.pdf?src-supplier=Element14; ComponentLink1Description: https://datasheet.ciiva.com/7729/40889-7729918.pdf?src-supplier=Element14; ComponentLink2URL: https://datasheet.ciiva.com/16624/kem-c1003-c0g-smd-16624847.pdf?src-supplier=Avnet+Europe; ComponentLink2Description: https://datasheet.ciiva.com/16624/kem-c1003-c0g-smd-16624847.pdf?src-supplier=Avnet+Europe; ComponentLink3URL: https://datasheet.ciiva.com/28614/40889-28614767.pdf?src-supplier=Element14; ComponentLink3Description: https://datasheet.ciiva.com/28614/40889-28614767.pdf?src-supplier=Element14; ComponentLink4URL: https://datasheet.ciiva.com/28688/1789732-28688687.pdf?src-supplier=Element14; ComponentLink4Description: https://datasheet.ciiva.com/28688/1789732-28688687.pdf?src-supplier=Element14; Supplier Part Number 1: 399-1213-1-ND
footprint Cap_1206
pins: 1, 2

## C2012X5R1E105K125AA
designator C?
CAP CER uF 1 25V X5R 0805; Manufacturer: TDK Corporation; Tolerance: ±10%; Supplier 1: Digi-Key; Manufacturer Part Number: C2012X5R1E105K125AA; RoHS: RoHS Compliant; Category: Capacitors; Stock 1: 308574; Pricing 1: 1=0.18, 10=0.129, 100=0.0605, 500=0.04244, 1000=0.03514 (USD); Packaging: Cut Tape (CT); Part Status: Not For New Designs; Voltage - Rated: 25V; Temperature Coefficient: X5R; Operating Temperature: -55°C ~ 85°C; Features: Low ESL; Ratings: -; Applications: General Purpose; Failure Rate: -; Mounting Type: Surface Mount, MLCC; Package / Case: 0805 (2012 Metric); Size / Dimension: 0.079" L x 0.049" W (2.00mm x 1.25mm); Height - Seated (Max): -; Thickness (Max): 0.057" (1.45mm); Lead Spacing: -; Lead Style: -; ComponentLink1URL: https://product.tdk.com/info/en/catalog/datasheets/mlcc_commercial_general_en.pdf; ComponentLink1Description: https://product.tdk.com/info/en/catalog/datasheets/mlcc_commercial_general_en.pdf; Supplier Part Number 1: 445-1419-1-ND
footprint Cap_0805
pins: 1, 2

## C2012X7R1H104K125AE
designator C?, comment 100nF/50V
CAP CER nF 100 50V X7R 0805; Manufacturer: TDK Corporation; Manufacturer Part Number: C2012X7R1H104K125AE; Tolerance: ±10%; Supplier 1: Digi-Key; RoHS: RoHS Compliant; Category: Capacitors; Stock 1: 21863; Pricing 1: 1=0.29, 10=0.197, 100=0.1118, 500=0.07894, 1000=0.06907 (USD); Packaging: Cut Tape (CT); Part Status: Active; Voltage - Rated: 50V; Temperature Coefficient: X7R; Operating Temperature: -55°C ~ 125°C; Features: Soft Termination; Ratings: -; Applications: Boardflex Sensitive; Failure Rate: -; Mounting Type: Surface Mount, MLCC; Package / Case: 0805 (2012 Metric); Size / Dimension: 0.079" L x 0.049" W (2.00mm x 1.25mm); Height - Seated (Max): -; Thickness (Max): 0.057" (1.45mm); Lead Spacing: -; Lead Style: -; ComponentLink1URL: https://product.tdk.com/info/en/catalog/datasheets/mlcc_commercial_soft_en.pdf; ComponentLink1Description: https://product.tdk.com/info/en/catalog/datasheets/mlcc_commercial_soft_en.pdf; Supplier Part Number 1: 445-15929-1-ND
footprint Cap_0805
pins: 1, 2

## C3216X7R2A474K160AA
designator C?, comment 470nF/100V
CAP CER nF 470 100V X7R 1206; Manufacturer 1: TDK; Manufacturer Part Number 1: C3216X7R2A474K160AA; Description 1: CAP CER 0.47UF 100V X7R 1206; Capacitance: 470nF; Tolerance: 10%; Supplier 1: Digi-Key; Stock 1: 136199; Pricing 1: 1=0.52, 10=0.368, 100=0.2422, 500=0.1794, 1000=0.15249 (USD); Mount: Surface Mount; Case/Package: 1206; Weight: 0.000571oz; Case Code (Metric): 3216; Case Code (Imperial): 1206; Min Operating Temperature: -55°C; Max Operating Temperature: 125°C; Packaging: Tape and Reel; Voltage Rating: 100V; Voltage Rating (DC): 100V; Package Quantity: 1; Dielectric: X7R; Termination: SMD/SMT; Composition: Ceramic; Voltage: 100V; Length: 3.2mm; Height: 1.6mm; Width: 0.063inch; Thickness: 0.071inch; Depth: 1.6mm; Radiation Hardening: No; REACH SVHC: No SVHC; Lead Free: Lead Free; ComponentLink1URL: http://www.farnell.com/datasheets/1484596.pdf?src-supplier=Element14; ComponentLink1Description: http://www.farnell.com/datasheets/1484596.pdf?src-supplier=Element14; ComponentLink2URL: https://product.tdk.com/info/en/documents/chara_sheet/C3216X7R2A474K160AA.pdf?src-supplier=Mouser; ComponentLink2Description: https://product.tdk.com/info/en/documents/chara_sheet/C3216X7R2A474K160AA.pdf?src-supplier=Mouser; ComponentLink3URL: https://product.tdk.com/info/en/documents/chara_sheet/C3216X7R2A474K160AA.pdf?src-supplier=Verical; ComponentLink3Description: https://product.tdk.com/info/en/documents/chara_sheet/C3216X7R2A474K160AA.pdf?src-supplier=Verical; ComponentLink4URL: http://uk.rs-online.com/webdocs/1532/0900766b81532cd0.pdf?src-supplier=RSComponents; ComponentLink4Description: http://uk.rs-online.com/webdocs/1532/0900766b81532cd0.pdf?src-supplier=RSComponents; Supplier Part Number 1: 445-2284-1-ND
footprint Cap_1206
footprint Cap_1206_NOSILK
footprint Cap_1206_SILKMIN
pins: 1, 2